# Altium footprint library AMP Footprints.PcbLib: 903 footprints (part 53 of 58)
Each footprint in its own frame and in the unit in brackets; x right, y up, seen from the top. Pads: shape width x height; smd on the part's side, far side on the other; paste and mask are expansions set on the pad; w line width, h text height; cw(c..) or ccw(c..) is an arc to the next point about the centre after c.
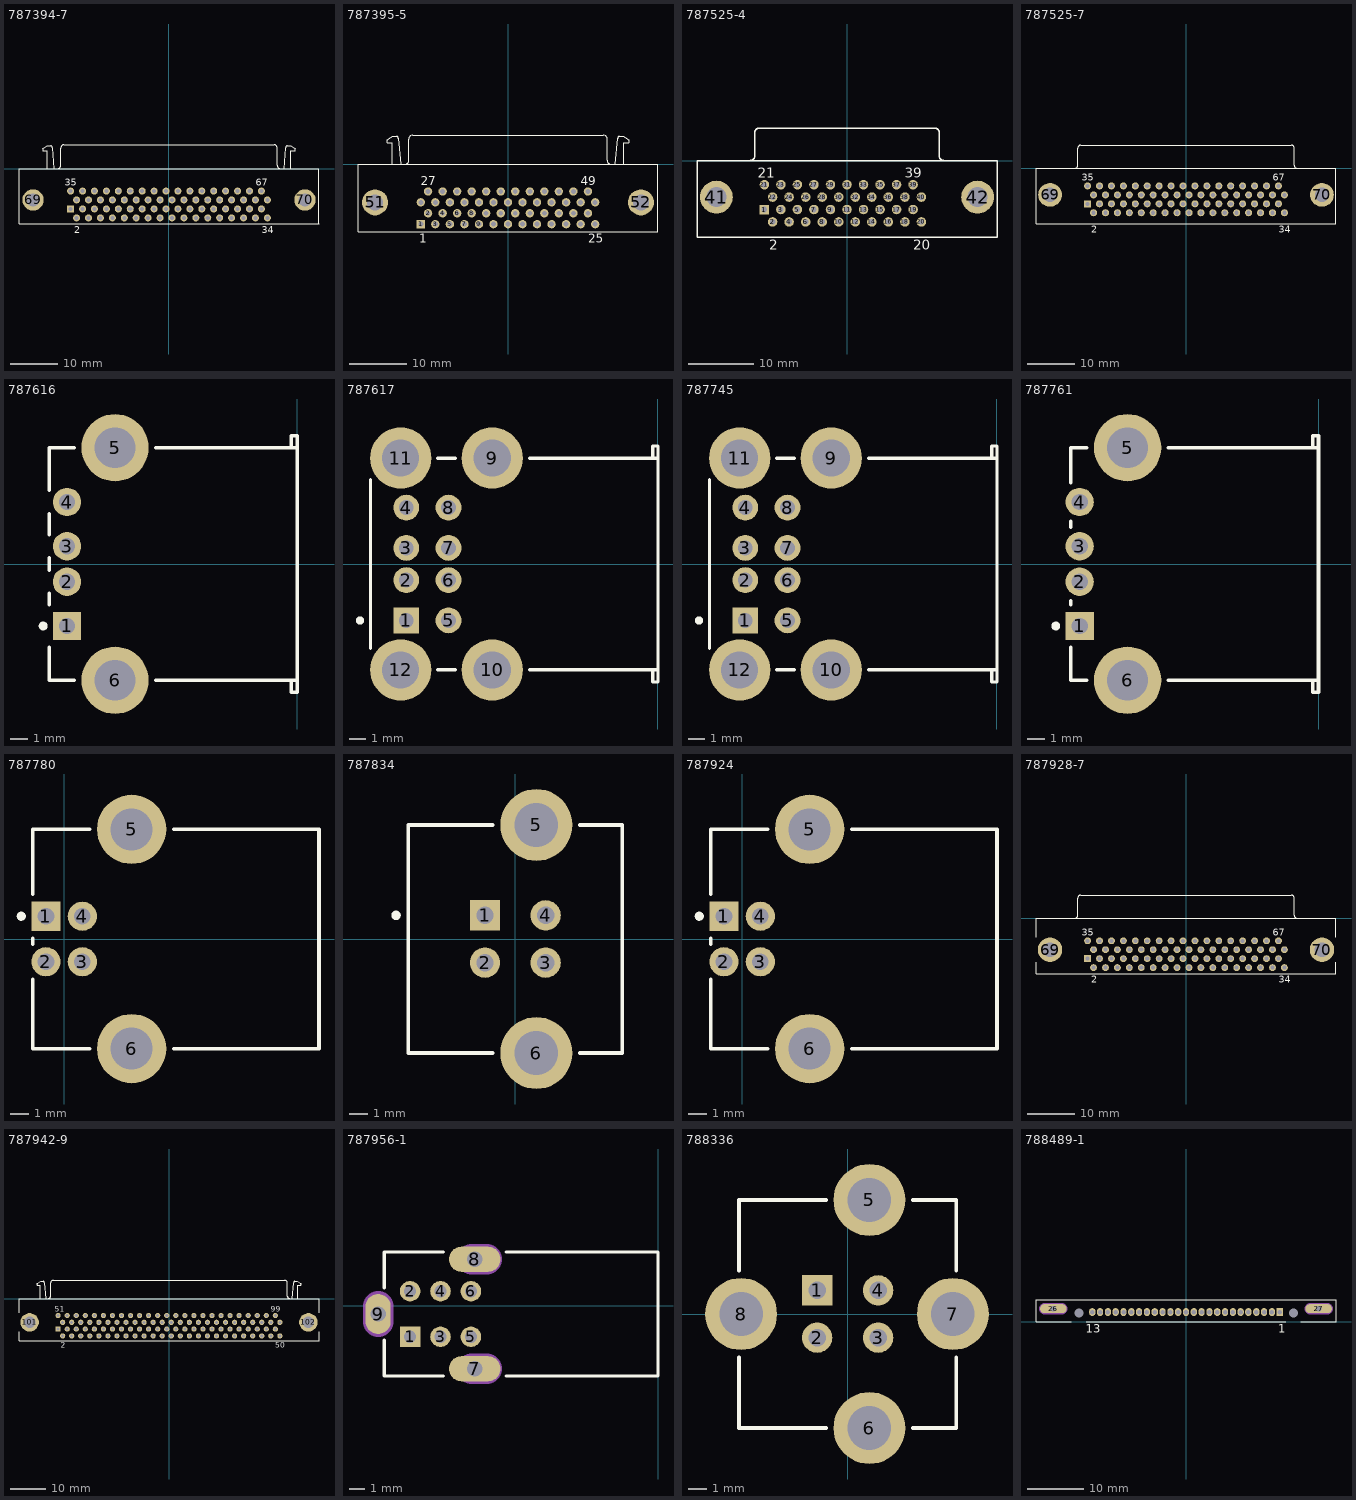
[diagram p52: the footprints below, top view; thin cyan lines are the x and y axes]

## 787394-7 [mm] "Connector; D Subminiature 050 Series; 68 Position; Right Angle"
height 10.44
pads (70):
  rect 1.5x1.5 hole 0.86: 1(-20.955,-8.555)
  round 1.5 hole 0.86: 2(-19.685,-10.46) 3(-18.415,-8.555) 4(-17.145,-10.46) 5(-15.875,-8.555) 6(-14.605,-10.46) 7(-13.335,-8.555) 8(-12.065,-10.46) 9(-10.795,-8.555) 10(-9.525,-10.46) 11(-8.255,-8.555) 12(-6.985,-10.46) 13(-5.715,-8.555) 14(-4.445,-10.46) 15(-3.175,-8.555) 16(-1.905,-10.46) 17(-0.635,-8.555) 18(0.635,-10.46) 19(1.905,-8.555) 20(3.175,-10.46) 21(4.445,-8.555) 22(5.715,-10.46) 23(6.985,-8.555) 24(8.255,-10.46) 25(9.525,-8.555) 26(10.795,-10.46) 27(12.065,-8.555) 28(13.335,-10.46) 29(14.605,-8.555) 30(15.875,-10.46) 31(17.145,-8.555) 32(18.415,-10.46) 33(19.685,-8.555) 34(20.955,-10.46) 35(-20.955,-4.745) 36(-19.685,-6.65) 37(-18.415,-4.745) 38(-17.145,-6.65) 39(-15.875,-4.745) 40(-14.605,-6.65) 41(-13.335,-4.745) 42(-12.065,-6.65) 43(-10.795,-4.745) 44(-9.525,-6.65) 45(-8.255,-4.745) 46(-6.985,-6.65) 47(-5.715,-4.745) 48(-4.445,-6.65) 49(-3.175,-4.745) 50(-1.905,-6.65) 51(-0.635,-4.745) 52(0.635,-6.65) 53(1.905,-4.745) 54(3.175,-6.65) 55(4.445,-4.745) 56(5.715,-6.65) 57(6.985,-4.745) 58(8.255,-6.65) 59(9.525,-4.745) 60(10.795,-6.65) 61(12.065,-4.745) 62(13.335,-6.65) 63(14.605,-4.745) 64(15.875,-6.65) 65(17.145,-4.745) 66(18.415,-6.65) 67(19.685,-4.745) 68(20.955,-6.65)
  round 4.55 hole 2.77: 69(-28.955,-6.65) 70(28.955,-6.65)
Top Overlay:
  lines w0.2: -26.84,4.27 -25.9,4.898 -25.178,4.898 cw(c-25.28,4.5) -24.87,4.5 ; -26.826,4.255 ccw(c-26.6,4.01) -26.85,3.79 -25.97,3.79 -25.97,0 ; -24.87,4.52 -24.5,0 ; -23.76,0.005 ccw(c-23.76,0.7) -23.065,0.7 -23.065,4.4 cw(c-22.37,4.4) -22.37,5.095 ; -22.37,5.11 22.37,5.11 ; 22.37,5.095 cw(c22.37,4.4) 23.065,4.4 23.065,0.7 ccw(c23.76,0.7) 23.76,0.005 ; 24.5,0 24.87,4.52 ; 24.87,4.5 cw(c25.28,4.5) 25.178,4.898 25.9,4.898 26.84,4.27 ; 25.97,0 25.97,3.79 26.85,3.79 ccw(c26.6,4.01) 26.826,4.255 ; -31.95,-11.76 31.95,-11.76 31.95,0 -31.95,0 -31.95,-11.76
  text "2" at -20.185,-13.735 h1.5
  text "34" at 19.705,-13.735 h1.5
  text "67" at 18.435,-3.62 h1.5
  text "35" at -22.205,-3.62 h1.5

## 787395-5 [mm] "Connector; D Subminiature 050 Series; 50 Position; Right Angle"
height 10.44
pads (52):
  rect 1.46x1.46 hole 0.86: 1(-15.24,-10.46)
  round 1.46 hole 0.86: 2(-13.97,-8.555) 3(-12.7,-10.46) 4(-11.43,-8.555) 5(-10.16,-10.46) 6(-8.89,-8.555) 7(-7.62,-10.46) 8(-6.35,-8.555) 9(-5.08,-10.46) 10(-3.81,-8.555) 11(-2.54,-10.46) 12(-1.27,-8.555) 13(0,-10.46) 14(1.27,-8.555) 15(2.54,-10.46) 16(3.81,-8.555) 17(5.08,-10.46) 18(6.35,-8.555) 19(7.62,-10.46) 20(8.89,-8.555) 21(10.16,-10.46) 22(11.43,-8.555) 23(12.7,-10.46) 24(13.97,-8.555) 25(15.24,-10.46) 26(-15.24,-6.65) 27(-13.97,-4.745) 28(-12.7,-6.65) 29(-11.43,-4.745) 30(-10.16,-6.65) 31(-8.89,-4.745) 32(-7.62,-6.65) 33(-6.35,-4.745) 34(-5.08,-6.65) 35(-3.81,-4.745) 36(-2.54,-6.65) 37(-1.27,-4.745) 38(0,-6.65) 39(1.27,-4.745) 40(2.54,-6.65) 41(3.81,-4.745) 42(5.08,-6.65) 43(6.35,-4.745) 44(7.62,-6.65) 45(8.89,-4.745) 46(10.16,-6.65) 47(11.43,-4.745) 48(12.7,-6.65) 49(13.97,-4.745) 50(15.24,-6.65)
  round 4.55 hole 2.77: 51(-23.24,-6.65) 52(23.24,-6.65)
Top Overlay:
  lines w0.2: -21.125,4.27 -20.185,4.898 -19.463,4.898 cw(c-19.565,4.5) -19.155,4.5 ; -21.111,4.255 ccw(c-20.885,4.01) -21.135,3.79 -20.255,3.79 -20.255,0 ; -19.155,4.52 -18.785,0 ; -18.045,0.015 ccw(c-18.045,0.71) -17.35,0.71 -17.35,4.41 ; -17.345,4.415 cw(c-16.65,4.415) -16.65,5.11 16.65,5.11 cw(c16.65,4.415) 17.345,4.415 ; 17.35,4.41 17.35,0.71 ccw(c18.045,0.71) 18.045,0.015 ; 18.785,0 19.155,4.52 ; 19.155,4.5 cw(c19.565,4.5) 19.463,4.898 20.185,4.898 21.125,4.27 ; 20.255,0 20.255,3.79 21.135,3.79 ccw(c20.885,4.01) 21.111,4.255 ; -26.225,-11.76 -26.225,0 26.225,0 26.225,-11.76 -26.225,-11.76
  text "1" at -15.49,-13.735 h1.5
  text "25" at 13.99,-13.735 h1.5
  text "27" at -15.22,-3.64 h1.5
  text "49" at 12.72,-3.64 h1.5

## 787525-4 [mm] "Connector; D Subminiature 050 Series; 40 Position; Right Angle"
height 10.44
pads (42):
  rect 1.46x1.46 hole 0.86: 1(-12.7,-7.52)
  round 1.46 hole 0.86: 2(-11.43,-9.425) 3(-10.16,-7.52) 4(-8.89,-9.425) 5(-7.62,-7.52) 6(-6.35,-9.425) 7(-5.08,-7.52) 8(-3.81,-9.425) 9(-2.54,-7.52) 10(-1.27,-9.425) 11(0,-7.52) 12(1.27,-9.425) 13(2.54,-7.52) 14(3.81,-9.425) 15(5.08,-7.52) 16(6.35,-9.425) 17(7.62,-7.52) 18(8.89,-9.425) 19(10.16,-7.52) 20(11.43,-9.425) 21(-12.7,-3.71) 22(-11.43,-5.615) 23(-10.16,-3.71) 24(-8.89,-5.615) 25(-7.62,-3.71) 26(-6.35,-5.615) 27(-5.08,-3.71) 28(-3.81,-5.615) 29(-2.54,-3.71) 30(-1.27,-5.615) 31(0,-3.71) 32(1.27,-5.615) 33(2.54,-3.71) 34(3.81,-5.615) 35(5.08,-3.71) 36(6.35,-5.615) 37(7.62,-3.71) 38(8.89,-5.615) 39(10.16,-3.71) 40(11.43,-5.615)
  round 5.05 hole 3.05: 41(-20.065,-5.615) 42(20.065,-5.615)
Top Overlay:
  lines w0.2: -14.87,0.005 ccw(c-14.87,0.7) -14.175,0.7 -14.175,4.3 cw(c-13.48,4.3) -13.48,4.995 ; -13.48,5 13.48,5 ; 13.48,4.995 cw(c13.48,4.3) 14.175,4.3 14.175,0.7 ccw(c14.87,0.7) 14.87,0.005 ; -23.05,-11.76 -23.05,0 23.05,0 23.05,-11.76 -23.05,-11.76
  text "2" at -11.93,-13.735 h1.5
  text "20" at 10.18,-13.735 h1.5
  text "21" at -13.7,-2.605 h1.5
  text "39" at 8.91,-2.605 h1.5

## 787525-7 [mm] "Connector; D Subminiature 050 Series; 68 Position; Right Angle"
height 10.44
pads (70):
  rect 1.5x1.5 hole 0.86: 1(-20.955,-7.52)
  round 1.5 hole 0.86: 2(-19.685,-9.425) 3(-18.415,-7.52) 4(-17.145,-9.425) 5(-15.875,-7.52) 6(-14.605,-9.425) 7(-13.335,-7.52) 8(-12.065,-9.425) 9(-10.795,-7.52) 10(-9.525,-9.425) 11(-8.255,-7.52) 12(-6.985,-9.425) 13(-5.715,-7.52) 14(-4.445,-9.425) 15(-3.175,-7.52) 16(-1.905,-9.425) 17(-0.635,-7.52) 18(0.635,-9.425) 19(1.905,-7.52) 20(3.175,-9.425) 21(4.445,-7.52) 22(5.715,-9.425) 23(6.985,-7.52) 24(8.255,-9.425) 25(9.525,-7.52) 26(10.795,-9.425) 27(12.065,-7.52) 28(13.335,-9.425) 29(14.605,-7.52) 30(15.875,-9.425) 31(17.145,-7.52) 32(18.415,-9.425) 33(19.685,-7.52) 34(20.955,-9.425) 35(-20.955,-3.71) 36(-19.685,-5.615) 37(-18.415,-3.71) 38(-17.145,-5.615) 39(-15.875,-3.71) 40(-14.605,-5.615) 41(-13.335,-3.71) 42(-12.065,-5.615) 43(-10.795,-3.71) 44(-9.525,-5.615) 45(-8.255,-3.71) 46(-6.985,-5.615) 47(-5.715,-3.71) 48(-4.445,-5.615) 49(-3.175,-3.71) 50(-1.905,-5.615) 51(-0.635,-3.71) 52(0.635,-5.615) 53(1.905,-3.71) 54(3.175,-5.615) 55(4.445,-3.71) 56(5.715,-5.615) 57(6.985,-3.71) 58(8.255,-5.615) 59(9.525,-3.71) 60(10.795,-5.615) 61(12.065,-3.71) 62(13.335,-5.615) 63(14.605,-3.71) 64(15.875,-5.615) 65(17.145,-3.71) 66(18.415,-5.615) 67(19.685,-3.71) 68(20.955,-5.615)
  round 5.05 hole 3.05: 69(-28.955,-5.615) 70(28.955,-5.615)
Top Overlay:
  lines w0.2: -23.76,0 ccw(c-23.76,0.695) -23.065,0.695 -23.065,4.295 cw(c-22.37,4.295) -22.37,4.99 ; -22.37,5 22.37,5 cw(c22.37,4.305) 23.065,4.305 ; 23.065,4.295 23.065,0.695 ccw(c23.76,0.695) 23.76,0 ; -31.94,-11.76 31.94,-11.76 31.94,0 -31.94,0 -31.94,-11.76
  text "34" at 19.705,-13.735 h1.5
  text "2" at -20.185,-13.735 h1.5
  text "35" at -22.205,-2.585 h1.5
  text "67" at 18.435,-2.585 h1.5

## 787616 [mm] "Connector; USB1.1, Type A, Thru-Hole; 4 Position; Right Angle"
height 7.01
pads (6):
  rect 1.6x1.6 hole 0.92: 1(-12.99,-3.5)
  round 1.6 hole 0.92: 2(-12.99,-1) 3(-12.99,1) 4(-12.99,3.5)
  round 3.8 hole 2.3: 5(-10.28,6.57) 6(-10.28,-6.57)
Top Overlay:
  circle w0.25: c-14.34,-3.5 r0.125
  lines w0.2: -14,-4.7 -14,-6.565 -12.58,-6.565 ; -14,-2.3 -14,-1.66 ; -14,-0.34 -14,0.34 ; -14,1.66 -14,2.84 ; -14,4.16 -14,6.565 -12.58,6.565 ; -7.98,-6.565 0,-6.565 ; -7.98,6.565 0,6.565 ; -0.32,-6.565 -0.32,-7.25 0,-7.25 0,-6.565 ; -0.32,6.565 -0.32,7.25 0,7.25 0,6.565 ; 0,-6.565 0,6.565

## 787617 [mm] "Connector; USB1.1, Type A, Thru-Hole; 4x4 Position; Right Angle"
height 15.51
pads (12):
  rect 1.6x1.6 hole 0.92: 1(-15.61,-3.5)
  round 1.6 hole 0.92: 2(-15.61,-1) 3(-15.61,1) 4(-15.61,3.5) 5(-12.99,-3.5) 6(-12.99,-1) 7(-12.99,1) 8(-12.99,3.5)
  round 3.8 hole 2.3: 9(-10.28,6.57) 10(-10.28,-6.57) 11(-15.96,6.57) 12(-15.96,-6.57)
Top Overlay:
  circle w0.25: c-18.48,-3.5 r0.125
  lines w0.2: -17.83,-5.23 -17.83,5.23 ; -13.66,-6.565 -12.58,-6.565 ; -13.66,6.565 -12.58,6.565 ; -7.97,-6.565 0,-6.565 ; -7.97,6.565 0,6.565 ; -0.32,-6.565 -0.32,-7.315 0,-7.315 0,-6.565 ; -0.32,6.565 -0.32,7.315 0,7.315 0,6.565 ; 0,-6.565 0,6.565

## 787745 [mm] "Connector; USB1.1, Type A, Thru-Hole; 4x4 Position; Right Angle"
height 15.51
pads (12):
  rect 1.6x1.6 hole 0.92: 1(-15.61,-3.5)
  round 1.6 hole 0.92: 2(-15.61,-1) 3(-15.61,1) 4(-15.61,3.5) 5(-12.99,-3.5) 6(-12.99,-1) 7(-12.99,1) 8(-12.99,3.5)
  round 3.8 hole 2.3: 9(-10.28,6.57) 10(-10.28,-6.57) 11(-15.96,6.57) 12(-15.96,-6.57)
Top Overlay:
  circle w0.25: c-18.48,-3.5 r0.125
  lines w0.2: -17.83,-5.23 -17.83,5.23 ; -13.66,-6.565 -12.58,-6.565 ; -13.66,6.565 -12.58,6.565 ; -7.97,-6.565 0,-6.565 ; -7.97,6.565 0,6.565 ; -0.32,-6.565 -0.32,-7.315 0,-7.315 0,-6.565 ; -0.32,6.565 -0.32,7.315 0,7.315 0,6.565 ; 0,-6.565 0,6.565

## 787761 [mm] "Connector; USB1.1, Type A, Thru-Hole; 4 Position; Right Angle"
height 7.01
pads (6):
  rect 1.6x1.6 hole 0.92: 1(-13.49,-3.5)
  round 1.6 hole 0.92: 2(-13.49,-1) 3(-13.49,1) 4(-13.49,3.5)
  round 3.8 hole 2.3: 5(-10.78,6.57) 6(-10.78,-6.57)
Top Overlay:
  circle w0.25: c-14.84,-3.5 r0.125
  lines w0.2: -14,-4.7 -14,-6.565 -13.08,-6.565 ; -14,-2.3 -14,-2.09 ; -14,2.09 -14,2.41 ; -14,4.59 -14,6.565 -13.08,6.565 ; -8.48,-6.565 0,-6.565 ; -8.48,6.565 0,6.565 ; -0.32,-6.565 -0.32,-7.25 0,-7.25 0,-6.565 ; -0.32,6.565 -0.32,7.25 0,7.25 0,6.565 ; 0,-6.565 0,6.565

## 787780 [mm] "Connector; USB1.1, Type B, Thru-Hole; 4 Position; Right Angle"
height 11.5
pads (6):
  rect 1.6x1.6 hole 0.92: 1(-1,1.25)
  round 1.6 hole 0.92: 2(-1,-1.25) 3(1,-1.25) 4(1,1.25)
  round 3.8 hole 2.3: 5(3.71,6.02) 6(3.71,-6.02)
Top Overlay:
  circle w0.25: c-2.35,1.25 r0.125
  lines w0.2: -1.72,-2.21 -1.72,-6.02 1.41,-6.02 ; -1.72,-0.29 -1.72,0.05 ; -1.72,2.45 -1.72,6.02 1.41,6.02 ; 6.01,-6.02 13.99,-6.02 13.99,6.02 6.01,6.02

## 787834 [mm] "Connector; USB1.1, Type B, Thru-Hole; 4 Position; Vertical"
height 15.62
pads (6):
  rect 1.6x1.6 hole 0.92: 1(-1.6,1.25)
  round 1.6 hole 0.92: 2(-1.6,-1.25) 3(1.6,-1.25) 4(1.6,1.25)
  round 3.8 hole 2.3: 5(1.11,6.02) 6(1.11,-6.02)
Top Overlay:
  circle w0.25: c-6.3,1.25 r0.125
  lines w0.2: -1.19,-6.02 -5.65,-6.02 -5.65,6.02 -1.19,6.02 ; 3.41,-6.02 5.65,-6.02 5.65,6.02 3.41,6.02

## 787924 [mm] "Connector; USB1.1, Type B, Thru-Hole; 4 Position; Right Angle"
height 11.5
pads (6):
  rect 1.6x1.6 hole 0.92: 1(-1,1.25)
  round 1.6 hole 0.92: 2(-1,-1.25) 3(1,-1.25) 4(1,1.25)
  round 3.8 hole 2.3: 5(3.71,6.02) 6(3.71,-6.02)
Top Overlay:
  circle w0.25: c-2.35,1.25 r0.125
  lines w0.2: -1.72,-2.21 -1.72,-6.02 1.41,-6.02 ; -1.72,-0.29 -1.72,0.05 ; -1.72,2.45 -1.72,6.02 1.41,6.02 ; 6.01,-6.02 13.99,-6.02 13.99,6.02 6.01,6.02

## 787928-7 [mm] "Connector; D Subminiature 050 Series; 68 Position; Right Angle"
height 10.44
pads (70):
  rect 1.46x1.46 hole 0.86: 1(-20.955,-8.555)
  round 1.46 hole 0.86: 2(-19.685,-10.46) 3(-18.415,-8.555) 4(-17.145,-10.46) 5(-15.875,-8.555) 6(-14.605,-10.46) 7(-13.335,-8.555) 8(-12.065,-10.46) 9(-10.795,-8.555) 10(-9.525,-10.46) 11(-8.255,-8.555) 12(-6.985,-10.46) 13(-5.715,-8.555) 14(-4.445,-10.46) 15(-3.175,-8.555) 16(-1.905,-10.46) 17(-0.635,-8.555) 18(0.635,-10.46) 19(1.905,-8.555) 20(3.175,-10.46) 21(4.445,-8.555) 22(5.715,-10.46) 23(6.985,-8.555) 24(8.255,-10.46) 25(9.525,-8.555) 26(10.795,-10.46) 27(12.065,-8.555) 28(13.335,-10.46) 29(14.605,-8.555) 30(15.875,-10.46) 31(17.145,-8.555) 32(18.415,-10.46) 33(19.685,-8.555) 34(20.955,-10.46) 35(-20.955,-4.745) 36(-19.685,-6.65) 37(-18.415,-4.745) 38(-17.145,-6.65) 39(-15.875,-4.745) 40(-14.605,-6.65) 41(-13.335,-4.745) 42(-12.065,-6.65) 43(-10.795,-4.745) 44(-9.525,-6.65) 45(-8.255,-4.745) 46(-6.985,-6.65) 47(-5.715,-4.745) 48(-4.445,-6.65) 49(-3.175,-4.745) 50(-1.905,-6.65) 51(-0.635,-4.745) 52(0.635,-6.65) 53(1.905,-4.745) 54(3.175,-6.65) 55(4.445,-4.745) 56(5.715,-6.65) 57(6.985,-4.745) 58(8.255,-6.65) 59(9.525,-4.745) 60(10.795,-6.65) 61(12.065,-4.745) 62(13.335,-6.65) 63(14.605,-4.745) 64(15.875,-6.65) 65(17.145,-4.745) 66(18.415,-6.65) 67(19.685,-4.745) 68(20.955,-6.65)
  round 5.2 hole 3.18: 69(-28.955,-6.65) 70(28.955,-6.65)
Top Overlay:
  lines w0.2: -31.94,-9.298 -31.94,-11.76 31.94,-11.76 31.94,-9.298 ; -31.94,-4.002 -31.94,0 31.94,0 31.94,-4.002 ; -23.76,0.015 ccw(c-23.76,0.71) -23.065,0.71 -23.065,4.3 cw(c-22.37,4.3) -22.37,4.995 ; -22.37,5 22.37,5 ; 22.37,4.995 cw(c22.37,4.3) 23.065,4.3 23.065,0.71 ccw(c23.76,0.71) 23.76,0.015
  lines w0.254: -29.292,-6.65 -28.955,-6.65
  text "67" at 18.435,-3.64 h1.5
  text "35" at -22.205,-3.64 h1.5
  text "34" at 19.705,-13.735 h1.5
  text "2" at -20.185,-13.735 h1.5

## 787942-9 [mm] "Connector; D Subminiature 050 Series; 100 Position; Right Angle"
height 10.44
pads (102):
  rect 1.46x1.46 hole 0.86: 1(-31.115,-8.555)
  round 1.46 hole 0.86: 2(-29.845,-10.46) 3(-28.575,-8.555) 4(-27.305,-10.46) 5(-26.035,-8.555) 6(-24.765,-10.46) 7(-23.495,-8.555) 8(-22.225,-10.46) 9(-20.955,-8.555) 10(-19.685,-10.46) 11(-18.415,-8.555) 12(-17.145,-10.46) 13(-15.875,-8.555) 14(-14.605,-10.46) 15(-13.335,-8.555) 16(-12.065,-10.46) 17(-10.795,-8.555) 18(-9.525,-10.46) 19(-8.255,-8.555) 20(-6.985,-10.46) 21(-5.715,-8.555) 22(-4.445,-10.46) 23(-3.175,-8.555) 24(-1.905,-10.46) 25(-0.635,-8.555) 26(0.635,-10.46) 27(1.905,-8.555) 28(3.175,-10.46) 29(4.445,-8.555) 30(5.715,-10.46) 31(6.985,-8.555) 32(8.255,-10.46) 33(9.525,-8.555) 34(10.795,-10.46) 35(12.065,-8.555) 36(13.335,-10.46) 37(14.605,-8.555) 38(15.875,-10.46) 39(17.145,-8.555) 40(18.415,-10.46) 41(19.685,-8.555) 42(20.955,-10.46) 43(22.225,-8.555) 44(23.495,-10.46) 45(24.765,-8.555) 46(26.035,-10.46) 47(27.305,-8.555) 48(28.575,-10.46) 49(29.845,-8.555) 50(31.115,-10.46) 51(-31.115,-4.745) 52(-29.845,-6.65) 53(-28.575,-4.745) 54(-27.305,-6.65) 55(-26.035,-4.745) 56(-24.765,-6.65) 57(-23.495,-4.745) 58(-22.225,-6.65) 59(-20.955,-4.745) 60(-19.685,-6.65) 61(-18.415,-4.745) 62(-17.145,-6.65) 63(-15.875,-4.745) 64(-14.605,-6.65) 65(-13.335,-4.745) 66(-12.065,-6.65) 67(-10.795,-4.745) 68(-9.525,-6.65) 69(-8.255,-4.745) 70(-6.985,-6.65) 71(-5.715,-4.745) 72(-4.445,-6.65) 73(-3.175,-4.745) 74(-1.905,-6.65) 75(-0.635,-4.745) 76(0.635,-6.65) 77(1.905,-4.745) 78(3.175,-6.65) 79(4.445,-4.745) 80(5.715,-6.65) 81(6.985,-4.745) 82(8.255,-6.65) 83(9.525,-4.745) 84(10.795,-6.65) 85(12.065,-4.745) 86(13.335,-6.65) 87(14.605,-4.745) 88(15.875,-6.65) 89(17.145,-4.745) 90(18.415,-6.65) 91(19.685,-4.745) 92(20.955,-6.65) 93(22.225,-4.745) 94(23.495,-6.65) 95(24.765,-4.745) 96(26.035,-6.65) 97(27.305,-4.745) 98(28.575,-6.65) 99(29.845,-4.745) 100(31.115,-6.65)
  round 5.2 hole 3.18: 101(-39.115,-6.65) 102(39.115,-6.65)
Top Overlay:
  lines w0.2: -42.1,-9.298 -42.1,-11.76 42.1,-11.76 42.1,-9.298 ; -42.1,-4.002 -42.1,0 42.1,0 42.1,-4.002 ; -37,4.27 -36.06,4.898 -35.338,4.898 cw(c-35.44,4.5) -35.03,4.5 ; -36.986,4.255 ccw(c-36.76,4.01) -37.01,3.79 -36.13,3.79 -36.13,0 ; -35.03,4.52 -34.66,0 ; -33.92,0.005 ccw(c-33.92,0.7) -33.225,0.7 -33.225,4.415 cw(c-32.53,4.415) -32.53,5.11 32.53,5.11 cw(c32.53,4.415) 33.225,4.415 33.225,0.7 ccw(c33.92,0.7) 33.92,0.005 ; 34.66,0 35.03,4.52 ; 35.03,4.5 cw(c35.44,4.5) 35.338,4.898 36.06,4.898 37,4.27 ; 36.13,0 36.13,3.79 37.01,3.79 ccw(c36.76,4.01) 36.986,4.255
  text "99" at 28.595,-3.64 h1.5
  text "51" at -32.115,-3.64 h1.5
  text "50" at 29.865,-13.735 h1.5
  text "2" at -30.345,-13.735 h1.5

## 787956-1 [mm] "Connector; IEEE1394, Thru-Hole; 6 Position; Right Angle"
height 13.7
pads (9):
  rect 1.35x1.35 hole 0.8: 1(-16.3,-2.053)
  round 1.35 hole 0.8: 2(-16.3,0.947) 3(-14.3,-2.053) 4(-14.3,0.947) 5(-12.3,-2.053) 6(-12.3,0.947)
  oval 3.4x1.65 hole 1: 7(-12.05,-4.153) 8(-12.05,3.047)
  oval 1.65x2.65 hole 1: 9(-18.4,-0.553)
Top Overlay:
  lines w0.2: -18,-2.278 -18,-4.628 -14.096,-4.628 ; -18,1.172 -18,3.522 -14.096,3.522 ; -10.004,-4.628 0,-4.628 0,3.522 -10.004,3.522
Mechanical 1:
  lines w1: -18.4,-1.053 -18.4,-0.053 ; -12.25,-4.153 -11.25,-4.153 ; -12.25,3.047 -11.25,3.047
  text "Mech 2 - Clearance, move to internal plane if present" at -18.411,4.524 h0.3
  text "Mech 1 - Slot cut-out" at -18.411,5.024 h0.3
  text "Assign keep-out area to slot" at -18.411,6.524 h0.3
  text "Slot 1x2mm, PTH" at -18.411,5.524 h0.3
  text "Alert PCB fab to slot details" at -18.411,6.024 h0.3
Mechanical 2:
  lines w1: -18.4,-1.053 -18.4,-0.053
  lines w2.016: -18.4,-1.053 -18.4,-0.053 ; -12.25,-4.153 -11.25,-4.153 ; -12.25,3.047 -11.25,3.047

## 788336 [mm] "Connector; USB1.1, Type B, Thru-Hole; 4 Position; Vertical"
height 15.62
pads (8):
  rect 1.6x1.6 hole 0.92: 1(-1.61,1.25)
  round 1.6 hole 0.92: 2(-1.61,-1.25) 3(1.61,-1.25) 4(1.61,1.25)
  round 3.8 hole 2.3: 5(1.15,6.02) 6(1.15,-6.02) 7(5.56,0) 8(-5.63,0)
Top Overlay:
  lines w0.2: -5.73,-2.3 -5.73,-6.02 -1.15,-6.02 ; -5.73,2.3 -5.73,6.02 -1.15,6.02 ; 3.45,-6.02 5.73,-6.02 5.73,-2.3 ; 3.45,6.02 5.73,6.02 5.73,2.3

## 788489-1 [mm] "Connector; D Subminiature 050 Series; 25 Position; Right Angle"
height 12.57
pads (29):
  rect 1.1x1.4 hole 0.8: 1(16.62,1.7)
  oval 1.1x1.4 hole 0.8: 2(13.85,1.7) 3(11.05,1.7) 4(8.31,1.7) 5(5.54,1.7) 6(2.77,1.7) 7(0,1.7) 8(-2.77,1.7) 9(-5.54,1.7) 10(-8.31,1.7) 11(-11.08,1.7) 12(-13.85,1.7) 13(-16.62,1.7) 14(15.235,1.7) 15(12.465,1.7) 16(9.695,1.7) 17(6.925,1.7) 18(4.155,1.7) 19(1.385,1.7) 20(-1.385,1.7) 21(-4.155,1.7) 22(-6.925,1.7) 23(-9.695,1.7) 24(-12.465,1.7) 25(-15.235,1.7)
  oval 4.75x1.6 hole 1: 26(-23.52,2.3) 27(23.52,2.3)
  round 1.3 hole 1.6: 28(-19.011,1.5) 29(19.019,1.5)
Top Overlay:
  lines w0.2: -20.305,0 -26.595,0 -26.595,3.9 26.595,3.9 26.595,0 20.313,0 ; -17.717,0 17.725,0
  text "13" at -17.745,-1.975 h1.5
  text "1" at 16.37,-1.975 h1.5
Mechanical 1:
  lines w1.2: -25.02,2.3 -22.02,2.3 ; 22.02,2.3 25.02,2.3
  text "Mech 2 - Clearance, move to internal plane if present" at -26.516,-3.17 h0.3
  text "Mech 1 - Slot cut-out" at -26.516,-2.67 h0.3
  text "Assign keep-out area to slot" at -26.516,-1.17 h0.3
  text "Slot 1.2x4.2mm, PTH" at -26.516,-2.17 h0.3
  text "Alert PCB fab to slot details" at -26.516,-1.67 h0.3
Mechanical 2:
  lines w2.016: -25.02,2.3 -22.02,2.3 ; 22.02,2.3 25.02,2.3